# Altium footprint library Посадочные места.PcbLib: 41 footprints (part 2 of 3)
Each footprint in its own frame and in the unit in brackets; x right, y up, seen from the top. Pads: shape width x height; smd on the part's side, far side on the other; paste and mask are expansions set on the pad; w line width, h text height; cw(c..) or ccw(c..) is an arc to the next point about the centre after c.
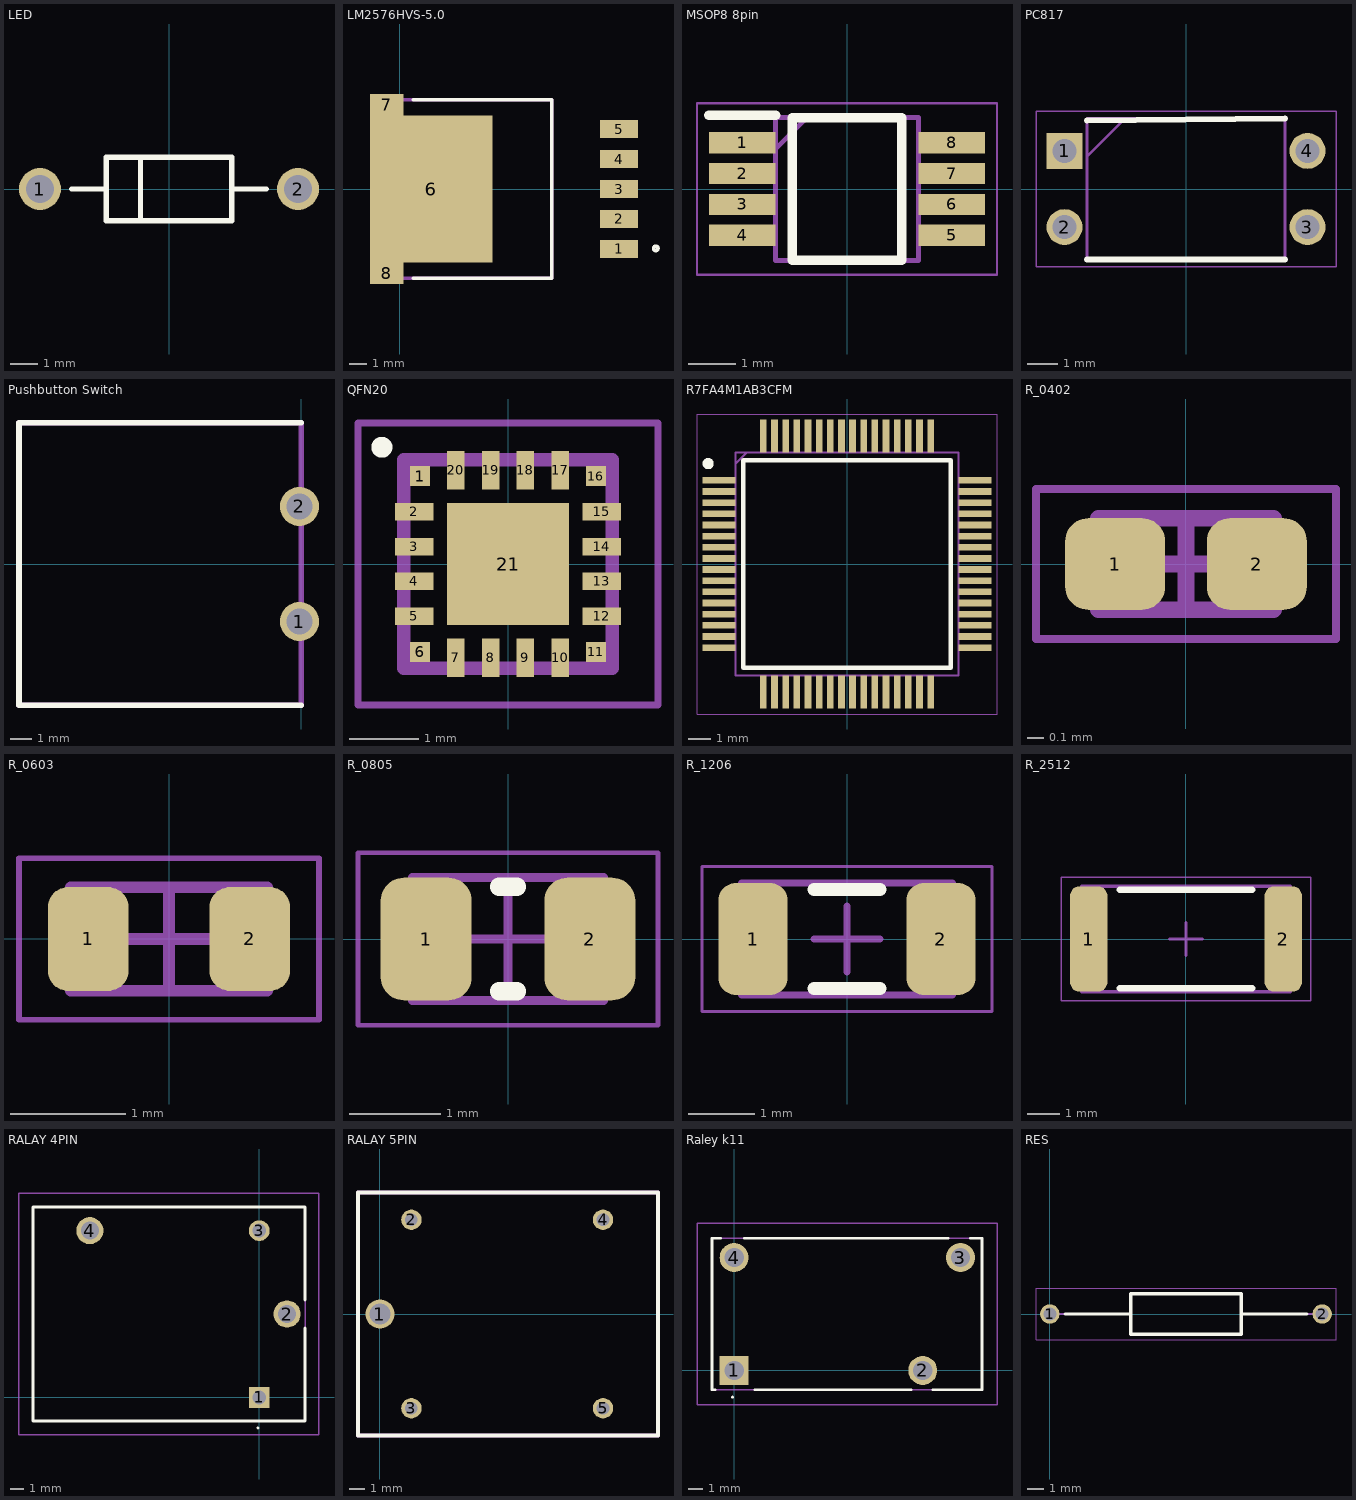
[diagram p1: the footprints below, top view; thin cyan lines are the x and y axes]

## LED [mm] "AXIAL, 2-Leads, Diameter 2.35mm"
height 2.35
pads (2):
  round 1.55 hole 1.05: 1(-4.77,0) 2(4.77,0)
Top Overlay:
  lines w0.2: -3.595,0 -2.325,0 ; -1.055,-1.175 -1.055,1.175 ; 2.325,0 3.595,0 ; -2.325,-1.175 -2.325,1.175 2.325,1.175 2.325,-1.175 -2.325,-1.175

## LM2576HVS-5.0 [mm]
pads (8):
  rect 2.16x1.02 smd: 1(12.461,-3.4) 2(12.461,-1.7) 3(12.461,0) 4(12.461,1.7) 5(12.461,3.4)
  rect 6.99x8.33 smd: 6(1.786,0)
  rect 1.91x1.235 smd: 7(-0.754,4.782) 8(-0.754,-4.782)
Top Overlay:
  circle w0.2: c14.551,-3.375 r0.126
  lines w0.2: 0.756,-5.08 8.64,-5.08 8.64,5.08 0.756,5.08
Mechanical 13:
  lines w0.2: 0,-5.08 8.64,-5.08 8.64,5.08 0,5.08 0,-5.08
3D body "LM2576HVS-5.0.stp": height 4.72, standoff 0, extent -1.11,-5.08 13.24,5.08

## MSOP8 8pin [mm] "ina333"
pads (8):
  rect 1.4x0.45 smd: 1(-2.2,0.975) 2(-2.2,0.325) 3(-2.2,-0.325) 4(-2.2,-0.975) 5(2.2,-0.975) 6(2.2,-0.325) 7(2.2,0.325) 8(2.2,0.975)
Top Overlay:
  lines w0.2: -2.9,1.55 -1.5,1.55 ; -1.15,-1.5 -1.15,1.5 1.15,1.5 1.15,-1.5 -1.15,-1.5
Mechanical 13:
  lines w0.1: -1.5,0.85 -0.85,1.5 ; -1.5,-1.5 -1.5,1.5 1.5,1.5 1.5,-1.5 -1.5,-1.5
Mechanical 15:
  lines w0.05: -3.15,-1.8 -3.15,1.8 3.15,1.8 3.15,-1.8 -3.15,-1.8
3D body "INA333AIDGKR.stp": height 1.1, standoff 0, extent -2.451,-1.499 2.451,1.499

## PC817 [mm]
pads (4):
  rect 1.2x1.2 hole 0.8: 1(-4.05,1.27)
  round 1.2 hole 0.8: 2(-4.05,-1.27) 3(4.05,-1.27) 4(4.05,1.27)
Top Overlay:
  lines w0.2: -3.302,2.286 3.3,2.35 ; -3.3,-2.35 3.3,-2.35
Mechanical 13:
  lines w0.1: -3.3,1.08 -2.03,2.35 ; -3.3,-2.35 -3.3,2.35 3.3,2.35 3.3,-2.35 -3.3,-2.35
Mechanical 15:
  lines w0.05: -5,-2.6 -5,2.6 5,2.6 5,-2.6 -5,-2.6
3D body "PC817.stp": height 5, standoff -3.5, extent -4.2,-2.3 4.2,2.3

## Pushbutton Switch [mm]
pads (2):
  round 1.8 hole 1.2: 1(-0.081,-2.65) 2(-0.081,2.65)
Top Overlay:
  lines w0.254: 0,-6.5 -13,-6.5 -13,6.5 0,6.5
Mechanical 13:
  lines w0.254: -13,-6.5 0,-6.5 0,6.5 -13,6.5 -13,-6.5
3D body "GPTS203211B.stp": height 9.21, standoff -2.09, extent -12.79,-6.02 0.11,5.98

## QFN20 [mm]
pads (21):
  rect 0.29x0.29 smd: 1(-1.265,1.265) 6(-1.265,-1.265) 11(1.265,-1.265) 16(1.265,1.265)
  rect 0.55x0.25 smd: 2(-1.35,0.75) 3(-1.35,0.25) 4(-1.35,-0.25) 5(-1.35,-0.75) 12(1.35,-0.75) 13(1.35,-0.25) 14(1.35,0.25) 15(1.35,0.75)
  rect 0.25x0.55 smd: 7(-0.75,-1.35) 8(-0.25,-1.35) 9(0.25,-1.35) 10(0.75,-1.35) 17(0.75,1.35) 18(0.25,1.35) 19(-0.25,1.35) 20(-0.75,1.35)
  rect 1.75x1.75 smd: 21(0,0)
Top Overlay:
  lines w0.2: -1.778,1.714 cw(c-1.815,1.681) -1.865,1.681 ; -1.865,1.681 cw(c-1.815,1.681) -1.765,1.681 cw(c-1.815,1.681) -1.865,1.681
Mechanical 13:
  lines w0.2: -1.5,-1.5 -1.5,1.5 1.5,1.5 1.5,-1.5 -1.5,-1.5
Mechanical 15:
  lines w0.1: -2.159,-2.032 -2.159,2.032 2.159,2.032 2.159,-2.032 -2.159,-2.032
3D body "EFM8SB10F8G-A-QFN20.stp": height 0.8, standoff 0, extent -1.5,-1.5 1.5,1.5

## R7FA4M1AB3CFM [mm]
pads (64):
  rect 1.475x0.3 smd: 1(-5.738,3.75) 2(-5.738,3.25) 3(-5.738,2.75) 4(-5.738,2.25) 5(-5.738,1.75) 6(-5.738,1.25) 7(-5.738,0.75) 8(-5.738,0.25) 9(-5.738,-0.25) 10(-5.738,-0.75) 11(-5.738,-1.25) 12(-5.738,-1.75) 13(-5.738,-2.25) 14(-5.738,-2.75) 15(-5.738,-3.25) 16(-5.738,-3.75) 33(5.738,-3.75) 34(5.738,-3.25) 35(5.738,-2.75) 36(5.738,-2.25) 37(5.738,-1.75) 38(5.738,-1.25) 39(5.738,-0.75) 40(5.738,-0.25) 41(5.738,0.25) 42(5.738,0.75) 43(5.738,1.25) 44(5.738,1.75) 45(5.738,2.25) 46(5.738,2.75) 47(5.738,3.25) 48(5.738,3.75)
  rect 0.3x1.475 smd: 17(-3.75,-5.738) 18(-3.25,-5.738) 19(-2.75,-5.738) 20(-2.25,-5.738) 21(-1.75,-5.738) 22(-1.25,-5.738) 23(-0.75,-5.738) 24(-0.25,-5.738) 25(0.25,-5.738) 26(0.75,-5.738) 27(1.25,-5.738) 28(1.75,-5.738) 29(2.25,-5.738) 30(2.75,-5.738) 31(3.25,-5.738) 32(3.75,-5.738) 49(3.75,5.738) 50(3.25,5.738) 51(2.75,5.738) 52(2.25,5.738) 53(1.75,5.738) 54(1.25,5.738) 55(0.75,5.738) 56(0.25,5.738) 57(-0.25,5.738) 58(-0.75,5.738) 59(-1.25,5.738) 60(-1.75,5.738) 61(-2.25,5.738) 62(-2.75,5.738) 63(-3.25,5.738) 64(-3.75,5.738)
Top Overlay:
  circle w0.25: c-6.225,4.5 r0.125
  lines w0.2: -4.65,-4.65 -4.65,4.65 4.65,4.65 4.65,-4.65 -4.65,-4.65
Mechanical 13:
  lines w0.1: -5,4.5 -4.5,5 ; -5,-5 -5,5 5,5 5,-5 -5,-5
Mechanical 15:
  lines w0.05: -6.725,-6.725 -6.725,6.725 6.725,6.725 6.725,-6.725 -6.725,-6.725
3D body "R7FA4M1AB3CFM#HA0.stp": height 1.7, standoff 0, extent -6,-6 6,6

## R_0402 [mm] "Chip Resistor, 2-Leads, Body 1.00x0.50mm, IPC Medium Density"
height 0.4
pads (2):
  rrect50% 0.6x0.55 smd: 1(-0.425,0) 2(0.425,0)
Top Solder:
  region: -0.275,0.375 0.275,0.375 0.275,-0.375 -0.275,-0.375
Mechanical 14:
  lines w0.1: -0.525,-0.275 0.525,-0.275 0.525,0.275 -0.525,0.275 -0.525,-0.275
Mechanical 15:
  lines w0.05: -0.9,-0.45 0.9,-0.45 0.9,0.45 -0.9,0.45 -0.9,-0.45
  lines w0.1: -0.275,0 0.275,0 ; 0,-0.275 0,0.275
3D body "R_0402.step": height 0.4, standoff 0, extent -0.525,-0.275 0.525,0.275

## R_0603 [mm] "Chip Resistor, 2-Leads, Body 1.60x0.80mm, IPC Medium Density"
height 0.55
pads (2):
  rrect50% 0.7x0.9 smd: 1(-0.7,0) 2(0.7,0)
Mechanical 14:
  lines w0.1: -0.85,-0.45 0.85,-0.45 0.85,0.45 -0.85,0.45 -0.85,-0.45
Mechanical 15:
  lines w0.05: -1.3,-0.7 1.3,-0.7 1.3,0.7 -1.3,0.7 -1.3,-0.7
  lines w0.1: -0.45,0 0.45,0 ; 0,-0.45 0,0.45
3D body "R_0603.step": height 0.55, standoff 0, extent -0.85,-0.45 0.85,0.45

## R_0805 [mm] "Chip Resistor, 2-Leads, Body 2.00x1.25mm, IPC Medium Density"
height 0.6
pads (2):
  rrect50% 1x1.35 smd: 1(-0.9,0) 2(0.9,0)
Top Overlay:
  lines w0.2: -0.1,-0.575 0.1,-0.575 ; -0.1,0.575 0.1,0.575
Mechanical 14:
  lines w0.1: -1.05,-0.675 -1.05,0.675 1.05,0.675 1.05,-0.675 -1.05,-0.675
Mechanical 15:
  lines w0.05: -1.65,-0.95 -1.65,0.95 1.65,0.95 1.65,-0.95 -1.65,-0.95
  lines w0.1: -0.5,0 0.5,0 ; 0,-0.5 0,0.5
3D body "R_0805.step": height 0.6, standoff 0, extent -1.05,-0.675 1.05,0.675

## R_1206 [mm] "Chip Resistor, 2-Leads, Body 3.10x1.60mm, IPC Medium Density"
height 0.65
pads (2):
  rrect50% 1.05x1.7 smd: 1(-1.425,0) 2(1.425,0)
Top Overlay:
  lines w0.2: -0.5,-0.75 0.5,-0.75 ; -0.5,0.75 0.5,0.75
Mechanical 14:
  lines w0.1: -1.6,-0.85 -1.6,0.85 1.6,0.85 1.6,-0.85 -1.6,-0.85
Mechanical 15:
  lines w0.05: -2.2,-1.1 -2.2,1.1 2.2,1.1 2.2,-1.1 -2.2,-1.1
  lines w0.1: -0.5,0 0.5,0 ; 0,-0.5 0,0.5
3D body "R_1206.step": height 0.65, standoff 0, extent -1.6,-0.85 1.6,0.85

## R_2512 [mm] "Chip Resistor, 2-Leads, Body 6.35x3.10mm, IPC Medium Density"
height 0.65
pads (2):
  rrect50% 1.15x3.25 smd: 1(-3,0) 2(3,0)
Top Overlay:
  lines w0.2: -2.05,-1.525 2.05,-1.525 ; -2.05,1.525 2.05,1.525
Mechanical 14:
  lines w0.1: -3.225,-1.625 -3.225,1.625 3.225,1.625 3.225,-1.625 -3.225,-1.625
Mechanical 15:
  lines w0.05: -3.85,-1.9 -3.85,1.9 3.85,1.9 3.85,-1.9 -3.85,-1.9
  lines w0.1: -0.5,0 0.5,0 ; 0,-0.5 0,0.5
3D body "R_2512.step": height 0.65, standoff 0, extent -3.225,-1.625 3.225,1.625

## RALAY 4PIN [mm]
pads (4):
  rect 1.5x1.5 hole 1: 1(0,0)
  round 1.95 hole 1.3: 2(2,6) 4(-12.2,12)
  round 1.5 hole 1: 3(0,12)
Top Overlay:
  lines w0.1: -0.1,-2.25 cw(c-0.1,-2.2) -0.1,-2.15 cw(c-0.1,-2.2) -0.1,-2.25
  lines w0.2: 3.3,5 3.3,-1.7 -16.3,-1.7 -16.3,13.7 3.3,13.7 3.3,7
Mechanical 13:
  lines w0.1: -16.3,-1.7 3.3,-1.7 3.3,13.7 -16.3,13.7 -16.3,-1.7
Mechanical 15:
  lines w0.1: -17.3,-2.7 4.3,-2.7 4.3,14.7 -17.3,14.7 -17.3,-2.7
3D body "SRD-S-112DM-F-C1.stp": height 16, standoff -5, extent -16.3,-1.7 3.3,13.7

## RALAY 5PIN [mm]
pads (5):
  round 1.84 hole 1.34: 1(0,0)
  round 1.3 hole 0.8: 2(2,6) 3(2,-6) 4(14.2,6) 5(14.2,-6)
Top Overlay:
  lines w0.254: -1.4,-7.75 -1.4,7.75 17.7,7.75 17.7,-7.75 -1.4,-7.75
Mechanical 13:
  lines w0.254: -1.4,-7.75 -1.4,7.75 17.7,7.75 17.7,-7.75 -1.4,-7.75
3D body "SRD-05VDC-SL-C.stp": height 15.04, standoff -4.46, extent -1.35,-7.5 17.65,7.5

## Raley k11 [mm]
pads (4):
  rect 1.95x1.95 hole 1.3: 1(0,0)
  round 1.95 hole 1.3: 2(12.7,0) 3(15.24,7.6) 4(0,7.6)
Top Overlay:
  lines w0.1: -0.1,-1.85 cw(c-0.1,-1.8) -0.1,-1.75 cw(c-0.1,-1.8) -0.1,-1.85
  lines w0.2: -1.3,-1.3 -1.5,-1.3 -1.5,8.9 -0.9,8.9 ; 0.7,8.9 14.4,8.9 ; 1.4,-1.3 11.9,-1.3 ; 13.4,-1.3 16.7,-1.3 16.7,8.9 15.9,8.9
Mechanical 13:
  lines w0.1: -1.5,-1.3 16.7,-1.3 16.7,8.9 -1.5,8.9 -1.5,-1.3
Mechanical 15:
  lines w0.1: -2.5,-2.3 17.7,-2.3 17.7,9.9 -2.5,9.9 -2.5,-2.3
3D body "SJ-SH-112DMH.stp": height 16, standoff -5, extent -1.5,-1.3 16.7,8.9

## RES [mm]
pads (2):
  round 1.2 hole 0.8: 1(0,0) 2(16.8,0)
Top Overlay:
  lines w0.2: 0.95,0 5,0 ; 11.8,0 15.85,0 ; 5,-1.25 11.8,-1.25 11.8,1.25 5,1.25 5,-1.25
Mechanical 13:
  lines w0.1: 0,0 5,0 ; 11.8,0 16.8,0 ; 5,-1.25 11.8,-1.25 11.8,1.25 5,1.25 5,-1.25
Mechanical 15:
  lines w0.05: -0.85,-1.6 17.65,-1.6 17.65,1.6 -0.85,1.6 -0.85,-1.6
3D body "MCF_0.25W_150K.stp": height 2.5, standoff -2.5, extent -0.295,-1.241 17.095,1.241